# EAGLE library part MR25H256 (library MR25H256 - MRAM)
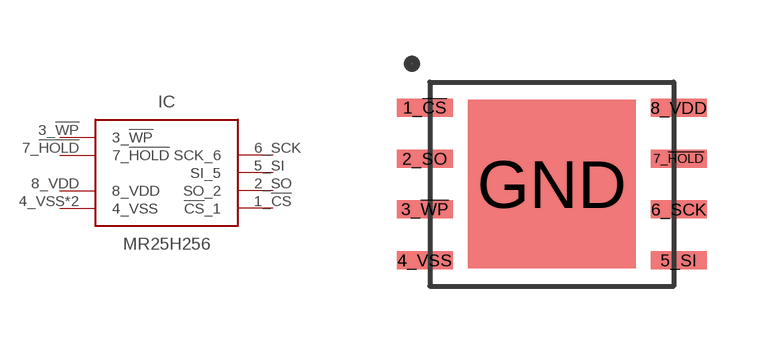
[diagram p0: symbol with the pads of DFN-8; footprint DFN-8]

Designator prefix IC

## MR25H256  [DFN-8]
1_!CS!  !CS!_1  hiz
2_SO  SO_2  out
3_!WP!  3_!WP!  in
4_VSS  4_VSS  pwr
5_SI  SI_5  in
6_SCK  SCK_6  in
7_!HOLD!  7_!HOLD!  in
8_VDD  8_VDD  pwr
GND  4_VSS  pwr

## Footprint DFN-8 (pad centres in mm)
smd 1.4 x 0.45: 1_!CS! -3.175,1.905; 2_SO -3.175,0.635; 3_!WP! -3.175,-0.635; 4_VSS -3.175,-1.905; 5_SI 3.175,-1.905; 6_SCK 3.175,-0.635; 7_!HOLD! 3.175,0.635; 8_VDD 3.175,1.905
smd 4.2 x 4.2: GND 0,0